# EAGLE library part MAX1771P (library ads)
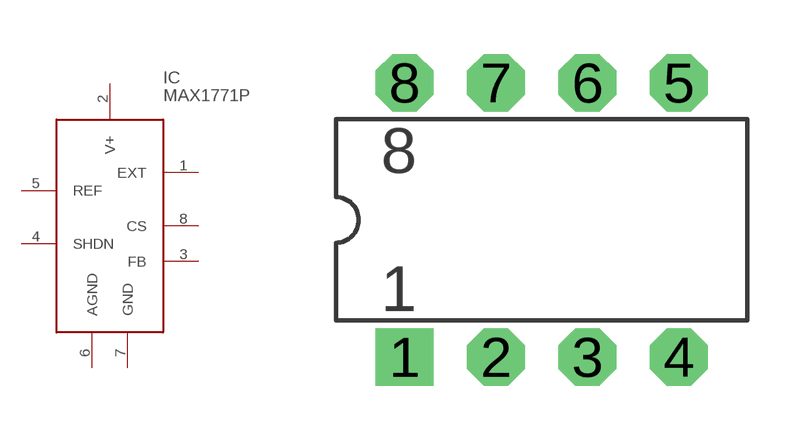
[diagram p19: symbol with the pads of DIP08; footprint DIP08]

Designator prefix IC

## MAX1771P  [DIP08]
1  EXT  out
2  V+  pwr
3  FB  pas
4  SHDN  pas
5  REF  pas
6  AGND  pwr
7  GND  pwr
8  CS  pas

## Footprint DIP08 (pad centres in mm)
drill 0.813 pad 1.6 square: 1 1.27,-3.81
drill 0.813 pad 1.6 octagon: 2 3.81,-3.81; 3 6.35,-3.81; 4 8.89,-3.81; 5 8.89,3.81; 6 6.35,3.81; 7 3.81,3.81; 8 1.27,3.81